# EAGLE library part AD7992 (library analog-devices)
12-Bit ADC, 2-Channel I2C
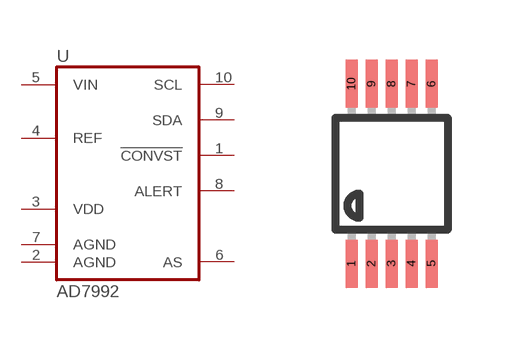
[diagram p57: symbol with the pads of MSOP10; footprint MSOP10]

Designator prefix U

## AD7992  [MSOP10]
1  !CONVST!  in
2  AGND  pwr
3  VDD  pwr
4  REF  pas
5  VIN  in
6  AS  in
7  AGND  pwr
8  ALERT  out
9  SDA
10  SCL  in

## Footprint MSOP10 (pad centres in mm)
MSOP-10
smd 0.3 x 1.2: 1 -1,-2.25; 2 -0.5,-2.25; 3 0,-2.25; 4 0.5,-2.25; 5 1,-2.25; 6 1,2.25; 7 0.5,2.25; 8 0,2.25; 9 -0.5,2.25; 10 -1,2.25